# Altium footprint library 野火_F103霸道_PCB封装_V2_0.PcbLib: 62 footprints (part 1 of 4)
Each footprint in its own frame and in the unit in brackets; x right, y up, seen from the top. Pads: shape width x height; smd on the part's side, far side on the other; paste and mask are expansions set on the pad; w line width, h text height; cw(c..) or ccw(c..) is an arc to the next point about the centre after c.
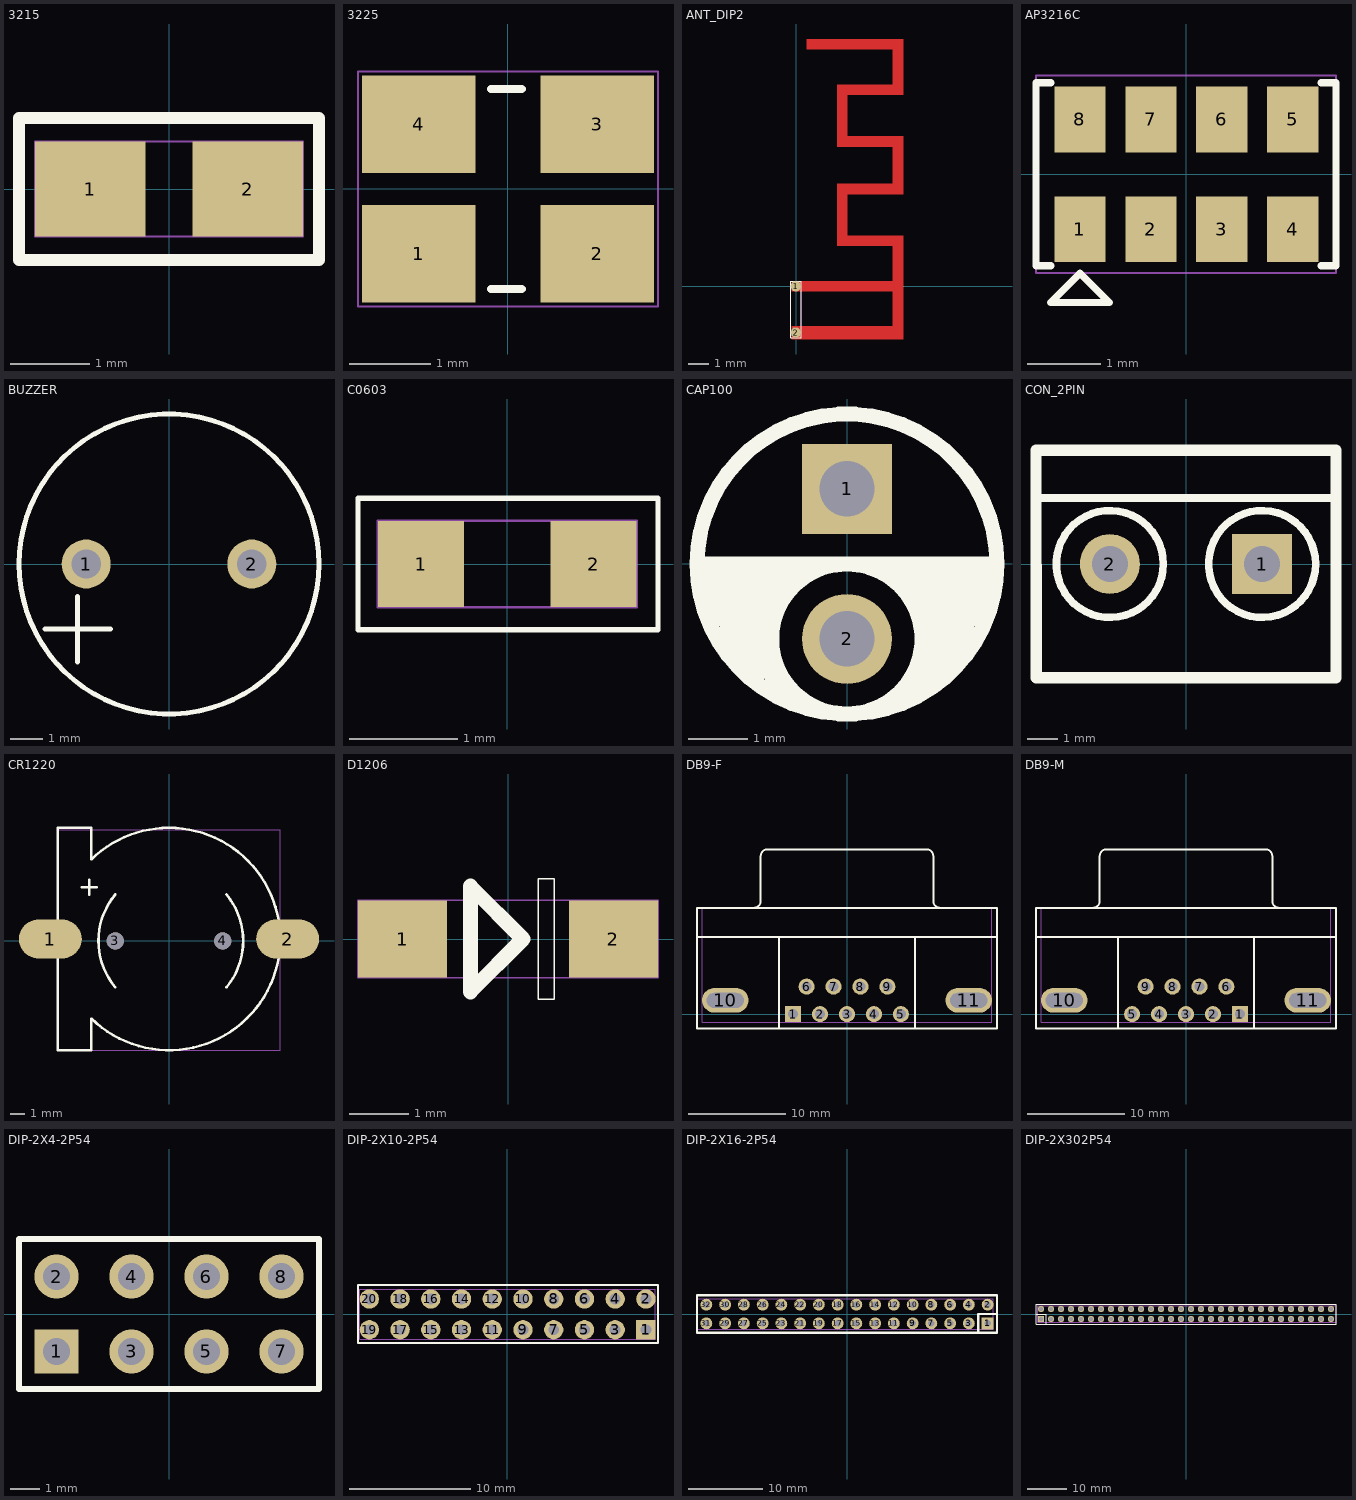
[diagram p0: the footprints below, top view; thin cyan lines are the x and y axes]

## 3215 [mm]
pads (2):
  rect 1.4x1.2 smd mask+0.05: 1(-1,0) 2(1,0)
Top Overlay:
  lines w0.15: -1.9,-0.9 1.9,-0.9 1.9,0.9 -1.9,0.9 -1.9,-0.9
Top Assembly:
  text "Y7" at -0.989,-0.635 h1.27
Mechanical 20:
  lines w0.025: -1.7,-0.6 -1.7,0.6 1.7,0.6 1.7,-0.6 -1.7,-0.6

## 3225 [mil]
pads (4):
  rect 55.12x47.24 smd mask+1.97: 1(-43.3,-31.5) 2(43.31,-31.5) 3(43.31,31.49) 4(-43.3,31.49)
Top Overlay:
  lines w3.94: -8.3,-48.51 6.7,-48.51 ; -8.3,48.51 6.7,48.51
Top Assembly:
  text "Y8" at 38.93,25 h50
Mechanical 20:
  lines w1: -72.83,-57.09 72.84,-57.09 72.84,57.08 -72.83,57.08 -72.83,-57.09

## ANT_DIP2 [mil]
pads (2):
  round 19.69 smd: 1(-0.91,0) 2(-0.91,-88.03)
Top Layer:
  region: 183.98,-100.35 203.67,-100.35 203.67,96.5 97.37,96.5 97.37,175.24 203.67,175.24 203.67,285.47 97.37,285.47 97.37,364.21 203.67,364.21 203.67,470.51 19.69,470.51 19.69,450.83 183.98,450.83 183.98,383.9 77.69,383.9 77.69,265.79 183.98,265.79 183.98,194.92 77.69,194.92 77.69,76.81 183.98,76.81 183.98,9.88 -8.93,9.88 -8.93,-9.8 183.98,-9.8
  region: -8.93,-100.35 193.94,-100.35 193.94,-75.68 -8.93,-75.68
Top Overlay:
  lines w1: -10.76,-97.87 8.93,-97.87 8.93,9.84 -10.76,9.84 -10.76,-97.87
Top Assembly:
  text "J86" at -56.06,-25 h50
Mechanical 20:
  lines w1: -10.76,-97.87 8.93,-97.87 8.93,9.84 -10.76,9.84 -10.76,-97.87

## AP3216C [mil]
pads (8):
  rect 27.56x35.43 smd mask+0.98: 1(-57.28,-29.53) 2(-19.09,-29.53) 3(19.09,-29.53) 4(57.28,-29.53) 5(57.28,29.53) 6(19.09,29.53) 7(-19.09,29.53) 8(-57.28,29.53)
Top Overlay:
  lines w3.94: -73.03,-49.21 -80.91,-49.21 -80.91,49.21 -73.03,49.21 ; 72.64,-49.21 80.51,-49.21 80.51,49.21 72.64,49.21 ; -73.03,-68.9 -41.54,-68.9 -57.28,-53.15 -73.03,-68.9
Top Assembly:
  text "U14" at 59.75,25 h50
Mechanical 20:
  lines w1: -80.91,-53.15 80.51,-53.15 80.51,53.15 -80.91,53.15 -80.91,-53.15

## BUZZER [mil]
pads (2):
  round 59.06 hole 35.43 mask+2: 1(-100,0) 2(100,0)
Top Overlay:
  circle w6: c0,0 r181.1
  lines w6: -149.61,-78.74 -70.87,-78.74 ; -110.24,-118.11 -110.24,-39.37
Top Assembly:
  text "PZ1" at 50.47,25 h50
Mechanical 20:
  circle w1: c0,0 r181.1

## C0603 [mil]
pads (2):
  rect 31.5x31.5 smd mask+1.97: 1(-31.5,0) 2(31.49,0)
Top Overlay:
  lines w2: -54.5,-24 -54.5,24 55,24 55,-24 -54.5,-24
Top Assembly:
  text "C96" at -62.61,-25 h50
Mechanical 20:
  lines w1: -47.25,-15.75 47.24,-15.75 47.24,15.75 -47.25,15.75 -47.25,-15.75

## CAP100 [mil]
pads (2):
  rect 60x60 hole 37 mask+2: 1(0,50)
  round 60 hole 37 mask+2: 2(0,-50)
Top Overlay:
  circle w10: c0,0 r100
  lines w10: -100,0 100,0 ; -90,-40 -90,0 ; -80,-60 -80,-5 ; -70,-70 -70,-5 ; -60,-75 -60,-5 ; -50,-85 -50,0 ; -45,-85 -45,-80 ; -40,-20 -40,0 ; -30,-10 -30,0 ; 35,-10 35,-5 ; 40,-20 40,-5 ; 45,-85 45,-80 ; 50,-85 50,-5 ; 60,-80 60,-5 ; 70,-70 70,-5 ; 80,-60 80,-5 ; 90,-40 90,-5 ; 0,-100 cw(c-0.26,-50) 0,0 cw(c0,-50) 0,-100
Top Assembly:
  text "C99" at -62.61,-25 h50
Mechanical 20:
  circle w1: c0,0 r100

## CON_2PIN [mm]
pads (2):
  rect 2x2 hole 1.2 mask+0.051: 1(2.54,0)
  round 2 hole 1.2 mask+0.051: 2(-2.54,0)
Top Overlay:
  circle w0.254: c2.54,0 r1.783
  circle w0.254: c-2.54,0 r1.783
  lines w0.254: -5.004,2.2 5.004,2.2
  lines w0.381: -5.004,3.8 5.004,3.8 5.004,-3.8 -5,-3.8 -5.004,3.8
Top Assembly:
  text "J15" at -1.355,-0.635 h1.27
Mechanical 20:
  lines w0.025: -5.004,-3.8 5.004,-3.8 5.004,3.8 -5.004,3.8 -5.004,-3.8

## CR1220 [mil]
pads (4):
  oval 169.29x106.3 smd mask+1.97: 1(-320,5) 2(320,5)
  round 46 hole 46 unplated mask+2: 3(-145,0) 4(145,0)
Top Overlay:
  lines w7: -235,145 -195,145 ; -215,125 -215,165 ; -209.62,-209.61 -210,-295 -300,-295 -300,5 -300,305 -210,305 -209.62,219.61 ; -209.52,-209.7 ccw(c0,5) 298.19,-27.92 ; -209.52,219.71 cw(c0,5.01) 0,305 cw(c0,5) 298.19,37.92 ; -145.23,-124.72 cw(c5,0) -145.01,124.99 ; 155.01,-124.99 ccw(c5,0) 155.01,124.98
Top Assembly:
  text "CN5" at -65.11,-25 h50
Mechanical 20:
  lines w1: -300,-295 -300,300 300,300 300,-295 -300,-295

## D1206 [mil]
pads (2):
  rect 59.06x51.18 smd mask+2: 1(-70,0) 2(70,0)
Top Overlay:
  lines w1: 20,-40 20,40 30.75,40 30.75,-40 20,-40
  lines w10: -25,-35 10,0 -25,35 -25,-35
Top Assembly:
  text "D5" at -38.93,-25 h50
Mechanical 20:
  lines w1: -99.53,-25.59 99.53,-25.59 99.53,25.59 -99.53,25.59 -99.53,-25.59

## DB9-F [mil]
pads (11):
  rect 65x65 hole 40 mask+2: 1(-218.11,0)
  round 65 hole 40 mask+2: 2(-109.06,0) 3(0,0) 4(109.06,0) 5(218.11,0) 6(-163.58,111.81) 7(-54.53,111.81) 8(54.53,111.81) 9(163.58,111.81)
  oval 188x100 hole 60 slot 150 at 0 deg mask+2: 10(-491.93,55.91) 11(491.93,55.9)
Top Overlay:
  lines w7.87: -606.3,311.81 606.3,311.81 ; -376.38,430.12 ccw(c-376.38,457.48) -349.02,457.48 -348.82,638.78 cw(c-321.46,638.78) -321.46,666.14 321.46,666.14 cw(c321.46,638.78) 348.82,638.78 349.02,457.48 ccw(c376.38,457.48) 376.38,430.12 ; -275.59,-58.27 -275.59,311.81 ; 275.59,-58.27 275.59,311.81 ; -606.3,-58.27 606.3,-58.27 606.3,429.92 -606.3,429.92 -606.3,-58.27
Top Assembly:
  text "CON1" at -79.27,-25 h50
Mechanical 20:
  lines w1: -585.63,-32.5 585.63,-32.5 585.63,429.92 -585.63,429.92 -585.63,-32.5

## DB9-M [mil]
pads (11):
  rect 65x65 hole 40 mask+2: 1(218.11,0)
  round 65 hole 40 mask+2: 2(109.06,0) 3(0,0) 4(-109.06,0) 5(-218.11,0) 6(163.58,111.81) 7(54.53,111.81) 8(-54.53,111.81) 9(-163.58,111.81)
  oval 188x100 hole 60 slot 150 at 0 deg mask+2: 10(-491.93,55.91) 11(491.93,55.9)
Top Overlay:
  lines w7.87: -606.3,311.81 606.3,311.81 ; -376.38,430.12 ccw(c-376.38,457.48) -349.02,457.48 -348.82,638.78 cw(c-321.46,638.78) -321.46,666.14 321.46,666.14 cw(c321.46,638.78) 348.82,638.78 349.02,457.48 ccw(c376.38,457.48) 376.38,430.12 ; -275.59,-58.27 -275.59,311.81 ; 275.59,-58.27 275.59,311.81 ; -606.3,-58.27 606.3,-58.27 606.3,429.92 -606.3,429.92 -606.3,-58.27
Top Assembly:
  text "CON2" at -89.99,-25 h50
Mechanical 20:
  lines w1: -585.63,-32.5 585.63,-32.5 585.63,429.92 -585.63,429.92 -585.63,-32.5

## DIP-2X4-2P54 [mil]
pads (8):
  rect 59.06x59.06 hole 35.43 mask+2: 1(-150,-50)
  round 59.06 hole 35.43 mask+2: 2(-150,50) 3(-50,-50) 4(-50,50) 5(50,-50) 6(50,50) 7(150,-50) 8(150,50)
Top Overlay:
  lines w8.66: -189.37,100 -200,100 ; -200,100 200,100 200,-100 -200,-100 -200,100
Top Assembly:
  text "J87" at 57.25,25 h50
Mechanical 20:
  lines w1: -200,-100 -200,100 200,100 200,-100 -200,-100

## DIP-2X10-2P54 [mil]
pads (20):
  rect 62.99x62.99 hole 35.43 mask+2: 1(451.57,-50)
  round 62.99 hole 35.43 mask+2: 2(451.57,50) 3(351.57,-50) 4(351.57,50) 5(251.57,-50) 6(251.57,50) 7(151.57,-50) 8(151.57,50) 9(51.57,-50) 10(51.57,50) 11(-48.43,-50) 12(-48.43,50) 13(-148.43,-50) 14(-148.43,50) 15(-248.43,-50) 16(-248.43,50) 17(-348.43,-50) 18(-348.43,50) 19(-448.43,-50) 20(-448.43,50)
Top Overlay:
  lines w5.91: -485.43,-93.31 -485.43,95.67 490.94,95.67 490.94,-93.31 -485.43,-93.31
Top Assembly:
  text "J17" at 53.33,25 h50
Mechanical 20:
  lines w1: -479.92,-81.5 -479.92,81.49 481.5,81.49 481.5,-81.5 -479.92,-81.5

## DIP-2X16-2P54 [mil]
pads (32):
  rect 62.99x62.99 hole 35.43 mask+2: 1(750,-50)
  round 62.99 hole 35.43 mask+2: 2(750,50) 3(650,-50) 4(650,50) 5(550,-50) 6(550,50) 7(450,-50) 8(450,50) 9(350,-50) 10(350,50) 11(250,-50) 12(250,50) 13(150,-50) 14(150,50) 15(50,-50) 16(50,50) 17(-50,-50) 18(-50,50) 19(-150,-50) 20(-150,50) 21(-250,-50) 22(-250,50) 23(-350,-50) 24(-350,50) 25(-450,-50) 26(-450,50) 27(-550,-50) 28(-550,50) 29(-650,-50) 30(-650,50) 31(-750,-50) 32(-750,50)
Top Overlay:
  lines w12: 700,-100 700,0 800,0 ; -800,-100 -800,100 800,100 800,-100 -800,-100
Top Assembly:
  text "CN6" at 63.92,25 h50
Mechanical 20:
  lines w1: -800,-81 781,-81 781,81 -800,81 -800,-81

## DIP-2X302P54 [mil]
pads (60):
  rect 62.99x62.99 hole 35.43 mask+2: 1(-1450,-50)
  round 62.99 hole 35.43 mask+2: 2(-1450,50) 3(-1350,-50) 4(-1350,50) 5(-1250,-50) 6(-1250,50) 7(-1150,-50) 8(-1150,50) 9(-1050,-50) 10(-1050,50) 11(-950,-50) 12(-950,50) 13(-850,-50) 14(-850,50) 15(-750,-50) 16(-750,50) 17(-650,-50) 18(-650,50) 19(-550,-50) 20(-550,50) 21(-450,-50) 22(-450,50) 23(-350,-50) 24(-350,50) 25(-250,-50) 26(-250,50) 27(-150,-50) 28(-150,50) 29(-50,-50) 30(-50,50) 31(50,-50) 32(50,50) 33(150,-50) 34(150,50) 35(250,-50) 36(250,50) 37(350,-50) 38(350,50) 39(450,-50) 40(450,50) 41(550,-50) 42(550,50) 43(650,-50) 44(650,50) 45(750,-50) 46(750,50) 47(850,-50) 48(850,50) 49(950,-50) 50(950,50) 51(1050,-50) 52(1050,50) 53(1150,-50) 54(1150,50) 55(1250,-50) 56(1250,50) 57(1350,-50) 58(1350,50) 59(1450,-50) 60(1450,50)
Top Overlay:
  lines w12: -1500,0 -1400,0 -1400,-100 ; -1500,-100 1500,-100 1500,100 -1500,100 -1500,-100
Top Assembly:
  text "CN3" at 65.11,25 h50
Mechanical 20:
  lines w1: -1481,-81 1500,-81 1500,81 -1481,81 -1481,-81